# Altium footprint library udm.PcbLib: 30 footprints (part 1 of 2)
Each footprint in its own frame and in the unit in brackets; x right, y up, seen from the top. Pads: shape width x height; smd on the part's side, far side on the other; paste and mask are expansions set on the pad; w line width, h text height; cw(c..) or ccw(c..) is an arc to the next point about the centre after c.
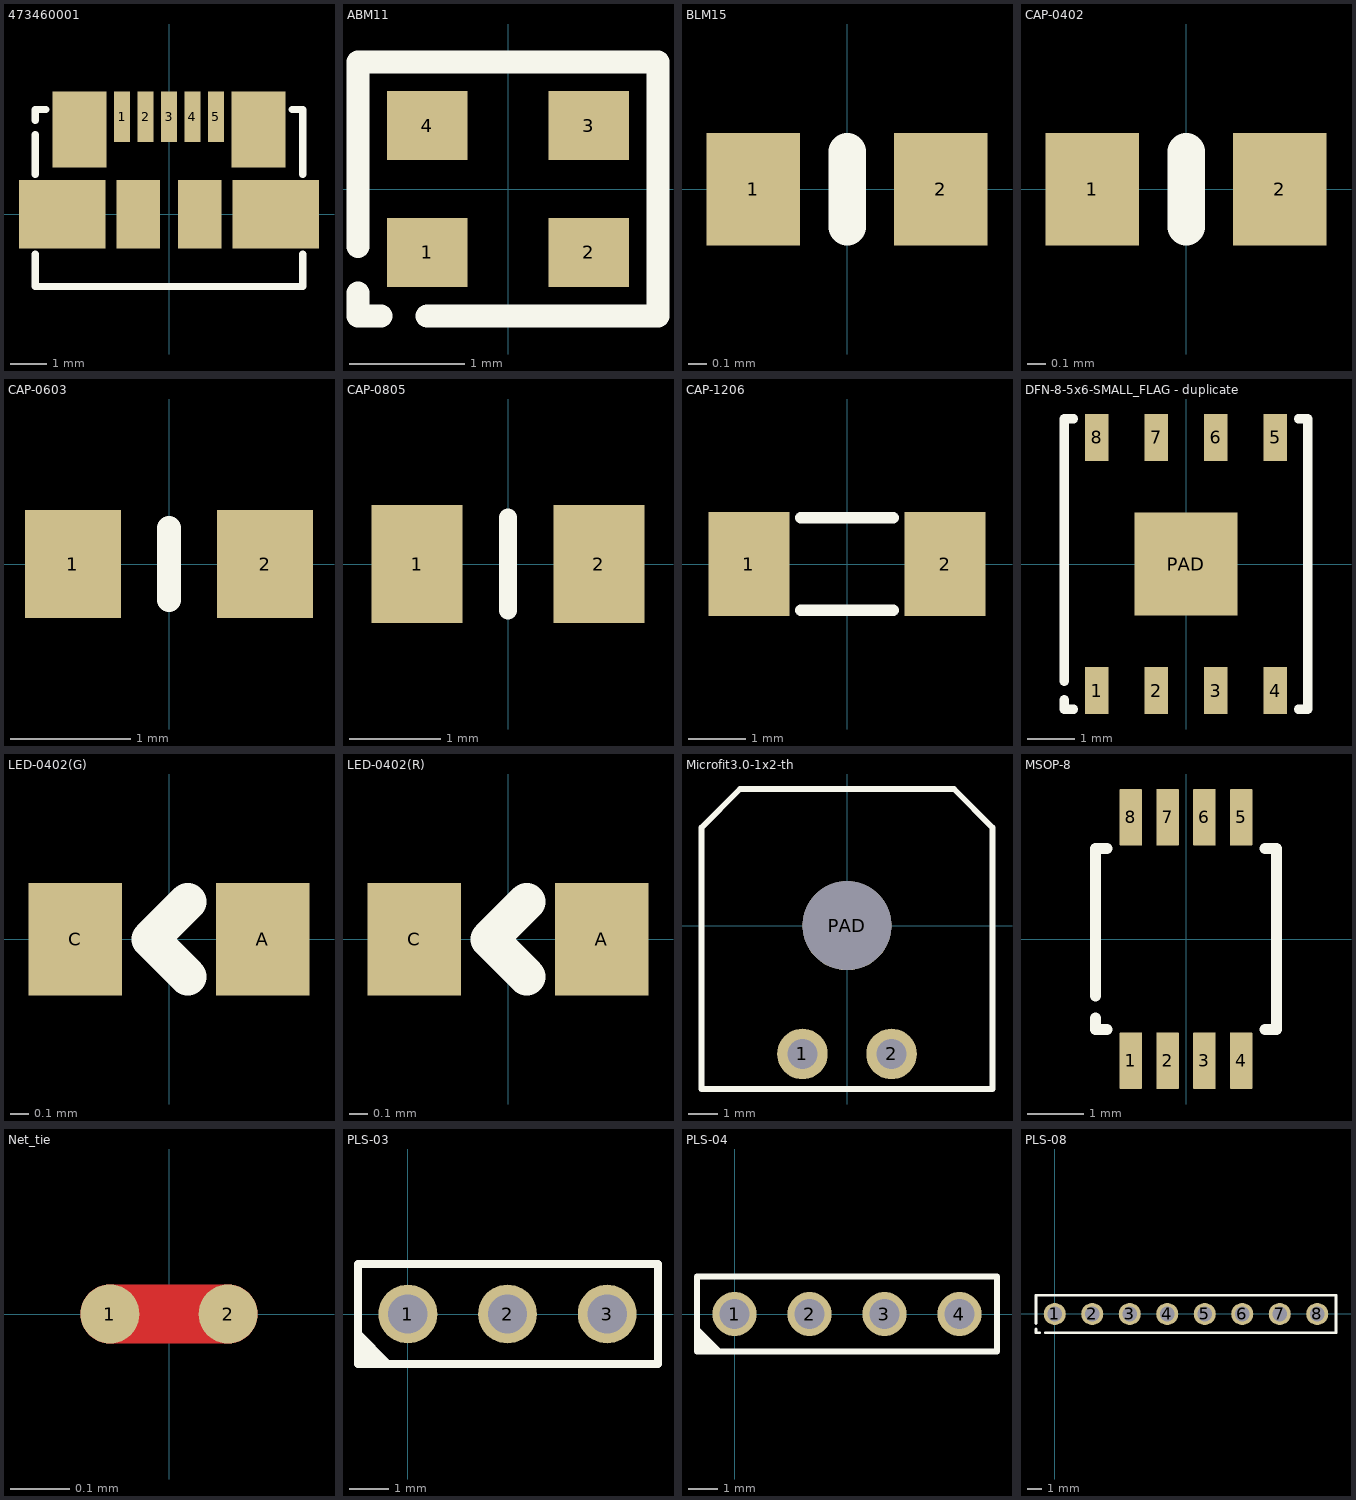
[diagram p0: the footprints below, top view; thin cyan lines are the x and y axes]

## 473460001 [mm] "Molex, USB-B micro"
pads (11):
  rect 0.45x1.4 smd: 1(-1.3,2.7) 2(-0.65,2.7) 3(0,2.7) 4(0.65,2.7) 5(1.3,2.7)
  rect 2.4x1.9 smd: ""(-2.95,0) ""(2.95,0)
  rect 1.5x2.1 smd: ""(-2.475,2.35) ""(2.475,2.35)
  rect 1.2x1.9 smd: ""(-0.85,0) ""(0.85,0)
Top Overlay:
  lines w0.2: -3.7,-1.1 -3.7,-2 3.7,-2 3.7,-1.1 ; -3.7,1.1 -3.7,2.2 ; -3.7,2.6 -3.7,2.9 -3.4,2.9 ; 3.4,2.9 3.7,2.9 3.7,1.1
3D body "473460001.stp": height 2.8, standoff -0.15, extent -3.99,-2.58 3.99,2.85

## ABM11 [mm]
height 1.524
pads (4):
  rect 0.7x0.6 smd: 1(-0.7,-0.55) 2(0.7,-0.55) 3(0.7,0.55) 4(-0.7,0.55)
Top Overlay:
  lines w0.2: -1.3,-0.9 -1.3,-1.1 -1.1,-1.1 ; -1.3,-0.5 -1.3,1.1 1.3,1.1 1.3,-1.1 -0.7,-1.1
3D body "User Library-ABM11.step": height 0.59, standoff 0, extent -1,-0.8 1,0.8

## BLM15 [mm]
height 0.508
pads (2):
  rect 0.5x0.6 smd: 1(-0.5,0) 2(0.5,0)
Top Overlay:
  lines w0.2: 0,-0.2 0,0.2
3D body "User Library-FB_1005.STEP": height 0.5, standoff 0, extent -0.5,-0.25 0.5,0.25

## CAP-0402 [mm]
height 0.508
pads (2):
  rect 0.5x0.6 smd: 1(-0.5,0) 2(0.5,0)
Top Overlay:
  lines w0.2: 0,-0.2 0,0.2
3D body "User Library-cap_0402.step": height 0.5, standoff 0, extent -0.5,-0.25 0.5,0.25

## CAP-0603 [mm]
height 0.762
pads (2):
  rect 0.8x0.9 smd: 1(-0.8,0) 2(0.8,0)
Top Overlay:
  lines w0.2: 0,-0.3 0,0.3
3D body "User Library-cap_0603.step": height 0.8, standoff 0, extent -0.8,-0.4 0.8,0.4

## CAP-0805 [mm]
height 1.27
pads (2):
  rect 1x1.3 smd: 1(-1,0) 2(1,0)
Top Overlay:
  lines w0.2: 0,-0.508 0,0.508
3D body "User Library-cap_0805-1.step": height 1.2, standoff 0, extent -1,-0.6 1,0.6

## CAP-1206 [mm]
height 1.524
pads (2):
  rect 1.4x1.8 smd: 1(-1.7,0) 2(1.7,0)
Top Overlay:
  lines w0.2: -0.8,-0.8 0.8,-0.8 ; -0.8,0.8 0.8,0.8
3D body "User Library-cap_1206-1.step": height 1.6, standoff 0, extent -1.6,-0.8 1.6,0.8

## DFN-8-5x6-SMALL_FLAG - duplicate [mm] "Стандатный (5x6x0.90)."
pads (9):
  rect 0.5x1 smd: 1(-1.905,-2.7) 2(-0.635,-2.7) 3(0.635,-2.7) 4(1.905,-2.7) 5(1.905,2.7) 6(0.635,2.7) 7(-0.635,2.7) 8(-1.905,2.7)
  rect 2.2x2.2 smd: PAD(0,0)
Top Overlay:
  lines w0.2: -2.6,-2.9 -2.6,-3.1 -2.4,-3.1 ; -2.6,-2.5 -2.6,3.1 -2.4,3.1 ; 2.4,-3.1 2.6,-3.1 2.6,3.1 2.4,3.1
3D body "DFN8-small_flag.step": height 0.9, standoff 0, extent -2.5,-3.02 2.5,3.02

## LED-0402(G) [mm]
pads (2):
  rect 0.5x0.6 smd: A(0.5,0) C(-0.5,0)
Top Overlay:
  lines w0.2: 0.1,-0.2 0,-0.1 -0.1,0 0,0.1 0.1,0.2
3D body "User Library-led_0402 (2).step": height 0.45, standoff 0, extent -0.505,-0.25 0.505,0.25

## LED-0402(R) [mm]
pads (2):
  rect 0.5x0.6 smd: A(0.5,0) C(-0.5,0)
Top Overlay:
  lines w0.2: 0.1,-0.2 0,-0.1 -0.1,0 0,0.1 0.1,0.2
3D body "User Library-led_0402.step": height 0.45, standoff 0, extent -0.505,-0.25 0.505,0.25

## Microfit3.0-1x2-th [mm] "Micro-Fit 3.0 Right-Angle Header, 3.00mm Pitch, Single Row, 2 Circuits, with Snap-in Plastic Peg PCB Lock, Tin, Glow-Wire Capable, Black"
pads (3):
  round 1.7 hole 1: 1(-1.5,-4.32) 2(1.5,-4.32)
  round 3 hole 3 unplated: PAD(0,0)
Top Overlay:
  lines w0.2: -4.9,-5.5 4.9,-5.5 4.9,3.3 3.6,4.6 -3.6,4.6 -4.9,3.3 -4.9,-5.5
3D body "436500201.stp": height 5.57, standoff -3.3, extent -4.825,-5.345 4.825,4.555

## MSOP-8 [mm]
pads (8):
  rrect10% 0.4x1 smd: 1(-0.975,-2.15) 2(-0.325,-2.15) 3(0.325,-2.15) 4(0.975,-2.15) 5(0.975,2.15) 6(0.325,2.15) 7(-0.325,2.15) 8(-0.975,2.15)
Top Overlay:
  lines w0.2: -1.6,-1.4 -1.6,-1.6 -1.4,-1.6 ; -1.6,-1 -1.6,1.6 -1.4,1.6 ; 1.4,-1.6 1.6,-1.6 1.6,1.6 1.4,1.6
3D body "User Library-msop-8.step": height 1.15, standoff 0, extent -1.5,-2.45 1.5,2.45

## Net_tie [mm]
height 0.508
pads (2):
  round 0.1 smd paste-0.1 mask+0: 1(-0.1,0) 2(0.1,0)
Top Layer:
  lines w0.1: -0.1,0 0.1,0

## PLS-03 [mm]
pads (3):
  round 1.5 hole 1: 1(0,0) 2(2.54,0) 3(5.08,0)
Top Overlay:
  region: -1.27,-0.508 -0.508,-1.27 -1.27,-1.27
  lines w0.2: -1.27,-0.508 -0.508,-1.27 ; -1.27,-1.27 6.375,-1.27 6.375,1.27 -1.27,1.27 -1.27,-1.27
3D body "User Library-PLS-1.step": height 8.44, standoff -3, extent 6.35,-1.27 8.89,1.27
3D body "User Library-PLS-1.step": height 8.44, standoff -3, extent 3.81,-1.27 6.35,1.27
3D body "User Library-PLS-1.step": height 8.44, standoff -3, extent 1.27,-1.27 3.81,1.27
3D body "User Library-PLS-1.step": height 8.44, standoff -3, extent -1.27,-1.27 1.27,1.27

## PLS-04 [mm]
pads (4):
  round 1.5 hole 1: 1(0,0) 2(2.54,0) 3(5.08,0) 4(7.62,0)
Top Overlay:
  region: -1.27,-0.508 -0.508,-1.27 -1.27,-1.27
  lines w0.2: -1.27,-0.508 -0.508,-1.27 ; -1.27,-1.27 -1.27,1.27 8.89,1.27 8.89,-1.27 -1.27,-1.27
3D body "User Library-PLS-1.step": height 8.44, standoff -3, extent -1.27,-1.27 1.27,1.27
3D body "User Library-PLS-1.step": height 8.44, standoff -3, extent 1.27,-1.27 3.81,1.27
3D body "User Library-PLS-1.step": height 8.44, standoff -3, extent 3.81,-1.27 6.35,1.27
3D body "User Library-PLS-1.step": height 8.44, standoff -3, extent 6.35,-1.27 8.89,1.27

## PLS-08 [mm]
pads (8):
  round 1.5 hole 1: 1(0,0) 2(2.54,0) 3(5.08,0) 4(7.62,0) 5(10.16,0) 6(12.7,0) 7(15.24,0) 8(17.78,0)
Top Overlay:
  lines w0.2: -1.27,-1.016 -1.27,-1.27 -1.016,-1.27 ; -1.27,-0.635 -1.27,1.27 19.05,1.27 19.05,-1.27 -0.635,-1.27
3D body "User Library-PLS-1.step": height 8.44, standoff -3, extent 16.51,-1.27 19.05,1.27
3D body "User Library-PLS-1.step": height 8.44, standoff -3, extent 13.97,-1.27 16.51,1.27
3D body "User Library-PLS-1.step": height 8.44, standoff -3, extent 11.43,-1.27 13.97,1.27
3D body "User Library-PLS-1.step": height 8.44, standoff -3, extent 8.89,-1.27 11.43,1.27
3D body "User Library-PLS-1.step": height 8.44, standoff -3, extent 6.35,-1.27 8.89,1.27
3D body "User Library-PLS-1.step": height 8.44, standoff -3, extent 3.81,-1.27 6.35,1.27
3D body "User Library-PLS-1.step": height 8.44, standoff -3, extent 1.27,-1.27 3.81,1.27
3D body "User Library-PLS-1.step": height 8.44, standoff -3, extent -1.27,-1.27 1.27,1.27